# Altium footprint library Screw-M1.PcbLib: 3 footprints
Each footprint in its own frame and in the unit in brackets; x right, y up, seen from the top. Pads: shape width x height; smd on the part's side, far side on the other; paste and mask are expansions set on the pad; w line width, h text height; cw(c..) or ccw(c..) is an arc to the next point about the centre after c.
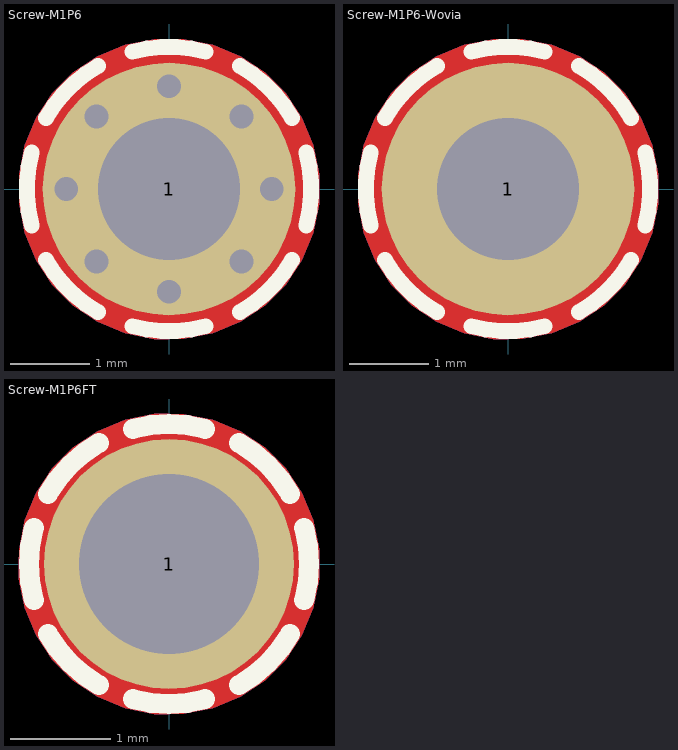
[diagram p0: the footprints below, top view; thin cyan lines are the x and y axes]

## Screw-M1P6 [mm] "Screw, hole diameter 1.8mm, PanHead 3.2mm"
pads (1):
  round 3.2 / inner round 2.1 / far side round 3.2 hole 1.8 mask+0.1: 1(0,0)
via 0.919,0.919 diameter 0.5 hole 0.3
via 1.3,0 diameter 0.5 hole 0.3
via 0.919,-0.919 diameter 0.5 hole 0.3
via 0,-1.3 diameter 0.5 hole 0.3
via -0.919,-0.919 diameter 0.5 hole 0.3
via -1.3,0 diameter 0.5 hole 0.3
via -0.919,0.919 diameter 0.5 hole 0.3
via 0,1.3 diameter 0.5 hole 0.3
Top Layer:
  pour cut-out: 0,1.9 0.187,1.9 0.554,1.827 0.9,1.684 1.211,1.476 1.476,1.211 1.684,0.9 1.827,0.554 1.9,0.187 1.9,0 1.9,-0.187 1.827,-0.554 1.684,-0.9 1.476,-1.211 1.211,-1.476 0.9,-1.684 0.554,-1.827 0.187,-1.9 0,-1.9 -0.187,-1.9 -0.554,-1.827 -0.9,-1.684 -1.211,-1.476 -1.476,-1.211 -1.684,-0.9 -1.827,-0.554 -1.9,-0.187 -1.9,0 -1.9,0.187 -1.827,0.554 -1.684,0.9 -1.476,1.211 -1.211,1.476 -0.9,1.684 -0.554,1.827 -0.187,1.9
Bottom Layer:
  pour cut-out: 0,1.9 0.187,1.9 0.554,1.827 0.9,1.684 1.211,1.476 1.476,1.211 1.684,0.9 1.827,0.554 1.9,0.187 1.9,0 1.9,-0.187 1.827,-0.554 1.684,-0.9 1.476,-1.211 1.211,-1.476 0.9,-1.684 0.554,-1.827 0.187,-1.9 0,-1.9 -0.187,-1.9 -0.554,-1.827 -0.9,-1.684 -1.211,-1.476 -1.476,-1.211 -1.684,-0.9 -1.827,-0.554 -1.9,-0.187 -1.9,0 -1.9,0.187 -1.827,0.554 -1.684,0.9 -1.476,1.211 -1.211,1.476 -0.9,1.684 -0.554,1.827 -0.187,1.9
Top Overlay:
  lines w0.2: -1.739,-0.466 cw(c0,0) -1.739,0.466 ; -1.559,-0.9 ccw(c0,0) -0.9,-1.559 ; -1.559,0.9 cw(c0,0) -0.9,1.559 ; -0.466,-1.739 ccw(c0,0) 0.466,-1.739 ; -0.466,1.739 cw(c0,0) 0.466,1.739 ; 0.9,-1.559 ccw(c0,0) 1.559,-0.9 ; 0.9,1.559 cw(c0,0) 1.559,0.9 ; 1.739,-0.466 ccw(c0,0) 1.739,0.466
3D body "screw_iso7045-m1_6x3-h.stp": height 1.47, standoff -2.8, extent -1.6,-1.6 1.6,1.6

## Screw-M1P6-Wovia [mm] "Screw, hole diameter 1.8mm, PanHead 3.2mm"
pads (1):
  round 3.2 / inner round 2.1 / far side round 3.2 hole 1.8 mask+0.1: 1(0,0)
Top Layer:
  pour cut-out: 0,1.9 0.187,1.9 0.554,1.827 0.9,1.684 1.211,1.476 1.476,1.211 1.684,0.9 1.827,0.554 1.9,0.187 1.9,0 1.9,-0.187 1.827,-0.554 1.684,-0.9 1.476,-1.211 1.211,-1.476 0.9,-1.684 0.554,-1.827 0.187,-1.9 0,-1.9 -0.187,-1.9 -0.554,-1.827 -0.9,-1.684 -1.211,-1.476 -1.476,-1.211 -1.684,-0.9 -1.827,-0.554 -1.9,-0.187 -1.9,0 -1.9,0.187 -1.827,0.554 -1.684,0.9 -1.476,1.211 -1.211,1.476 -0.9,1.684 -0.554,1.827 -0.187,1.9
Bottom Layer:
  pour cut-out: 0,1.9 0.187,1.9 0.554,1.827 0.9,1.684 1.211,1.476 1.476,1.211 1.684,0.9 1.827,0.554 1.9,0.187 1.9,0 1.9,-0.187 1.827,-0.554 1.684,-0.9 1.476,-1.211 1.211,-1.476 0.9,-1.684 0.554,-1.827 0.187,-1.9 0,-1.9 -0.187,-1.9 -0.554,-1.827 -0.9,-1.684 -1.211,-1.476 -1.476,-1.211 -1.684,-0.9 -1.827,-0.554 -1.9,-0.187 -1.9,0 -1.9,0.187 -1.827,0.554 -1.684,0.9 -1.476,1.211 -1.211,1.476 -0.9,1.684 -0.554,1.827 -0.187,1.9
Top Overlay:
  lines w0.2: -1.739,-0.466 cw(c0,0) -1.739,0.466 ; -1.559,-0.9 ccw(c0,0) -0.9,-1.559 ; -1.559,0.9 cw(c0,0) -0.9,1.559 ; -0.466,-1.739 ccw(c0,0) 0.466,-1.739 ; -0.466,1.739 cw(c0,0) 0.466,1.739 ; 0.9,-1.559 ccw(c0,0) 1.559,-0.9 ; 0.9,1.559 cw(c0,0) 1.559,0.9 ; 1.739,-0.466 ccw(c0,0) 1.739,0.466
3D body "screw_iso7045-m1_6x3-h.stp": height 1.47, standoff -2.8, extent -1.6,-1.6 1.6,1.6

## Screw-M1P6FT [mm] "Screw, hole diameter 1.8mm, PanHead 2.5mm"
pads (1):
  round 2.5 / inner round 2.1 / far side round 2.5 hole 1.8 mask+0.1: 1(0,0)
Top Layer:
  pour cut-out: 0,1.5 0.148,1.5 0.438,1.442 0.711,1.329 0.956,1.165 1.165,0.956 1.329,0.711 1.442,0.438 1.5,0.148 1.5,0 1.5,-0.148 1.442,-0.438 1.329,-0.711 1.165,-0.956 0.956,-1.165 0.711,-1.329 0.438,-1.442 0.148,-1.5 0,-1.5 -0.148,-1.5 -0.438,-1.442 -0.711,-1.329 -0.956,-1.165 -1.165,-0.956 -1.329,-0.711 -1.442,-0.438 -1.5,-0.148 -1.5,0 -1.5,0.148 -1.442,0.438 -1.329,0.711 -1.165,0.956 -0.956,1.165 -0.711,1.329 -0.438,1.442 -0.148,1.5
Bottom Layer:
  pour cut-out: 0,1.5 0.148,1.5 0.438,1.442 0.711,1.329 0.956,1.165 1.165,0.956 1.329,0.711 1.442,0.438 1.5,0.148 1.5,0 1.5,-0.148 1.442,-0.438 1.329,-0.711 1.165,-0.956 0.956,-1.165 0.711,-1.329 0.438,-1.442 0.148,-1.5 0,-1.5 -0.148,-1.5 -0.438,-1.442 -0.711,-1.329 -0.956,-1.165 -1.165,-0.956 -1.329,-0.711 -1.442,-0.438 -1.5,-0.148 -1.5,0 -1.5,0.148 -1.442,0.438 -1.329,0.711 -1.165,0.956 -0.956,1.165 -0.711,1.329 -0.438,1.442 -0.148,1.5
Top Overlay:
  lines w0.2: -1.352,-0.362 cw(c0,0) -1.352,0.362 ; -1.212,-0.7 ccw(c0,0) -0.7,-1.212 ; -1.212,0.7 cw(c0,0) -0.7,1.212 ; -0.362,-1.352 ccw(c0,0) 0.362,-1.352 ; -0.362,1.352 cw(c0,0) 0.362,1.352 ; 0.7,-1.212 ccw(c0,0) 1.212,-0.7 ; 0.7,1.212 cw(c0,0) 1.212,0.7 ; 1.352,-0.362 ccw(c0,0) 1.352,0.362
3D body "screw_iso7045-m1_6x3-h.stp": height 1.47, standoff -2.8, extent -1.6,-1.6 1.6,1.6